# Altium schematic symbol library DIODE ZENER 3.3 500mW.Schlib: 1 symbol
Pins are listed as number, name and electrical type; pins without a type are passive.

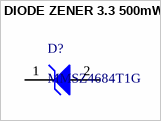
[diagram p0: symbol DIODE ZENER 3.3 500mW]

## DIODE ZENER 3.3 500mW
designator D?, comment MMSZ4684T1G
Zener 3V3 Voltage Regulator, 500 mW, 2-Pin SOD-123, Pb-Free, Tape and Reel
pins: 1 K, 2 A